# EAGLE library part TDC1000_TSSOP (library Texas Instruments)
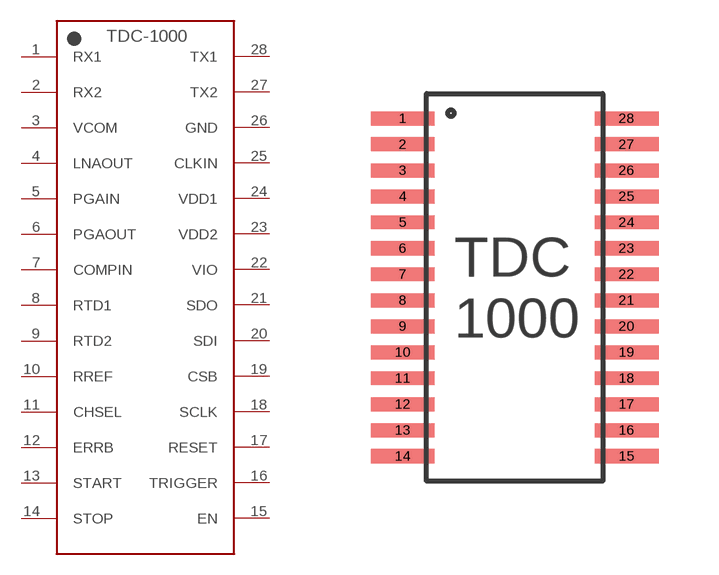
[diagram p1: symbol with the pads of TDC1000_TSSOP; footprint TDC1000_TSSOP]

Designator prefix -

## TDC1000_TSSOP  [TDC1000_TSSOP]
1  RX1  in
2  RX2  in
3  VCOM
4  LNAOUT  out
5  PGAIN  in
6  PGAOUT  out
7  COMPIN  in
8  RTD1  in
9  RTD2  in
10  RREF
11  CHSEL  in
12  ERRB
13  START  out
14  STOP  out
15  EN  in
16  TRIGGER  in
17  RESET  in
18  SCLK  in
19  CSB  in
20  SDI  in
21  SDO  out
22  VIO  in
23  VDD2  pwr
24  VDD1  pwr
25  CLKIN  in
26  GND  out
27  TX2  out
28  TX1  out

## Footprint TDC1000_TSSOP (pad centres in mm)
smd 1.6 x 0.35: 1 -2.8,4.225; 2 -2.8,3.575; 3 -2.8,2.925; 4 -2.8,2.275; 5 -2.8,1.625; 6 -2.8,0.975; 7 -2.8,0.325; 8 -2.8,-0.325; 9 -2.8,-0.975; 10 -2.8,-1.625; 11 -2.8,-2.275; 12 -2.8,-2.925; 13 -2.8,-3.575; 14 -2.8,-4.225; 15 2.8,-4.225; 16 2.8,-3.575; 17 2.8,-2.925; 18 2.8,-2.275; 19 2.8,-1.625; 20 2.8,-0.975; 21 2.8,-0.325; 22 2.8,0.325; 23 2.8,0.975; 24 2.8,1.625; 25 2.8,2.275; 26 2.8,2.925; 27 2.8,3.575; 28 2.8,4.225